# Altium footprint library LM5050.PCBLIB: 1 footprints
Each footprint in its own frame and in the unit in brackets; x right, y up, seen from the top. Pads: shape width x height; smd on the part's side, far side on the other; paste and mask are expansions set on the pad; w line width, h text height; cw(c..) or ccw(c..) is an arc to the next point about the centre after c.
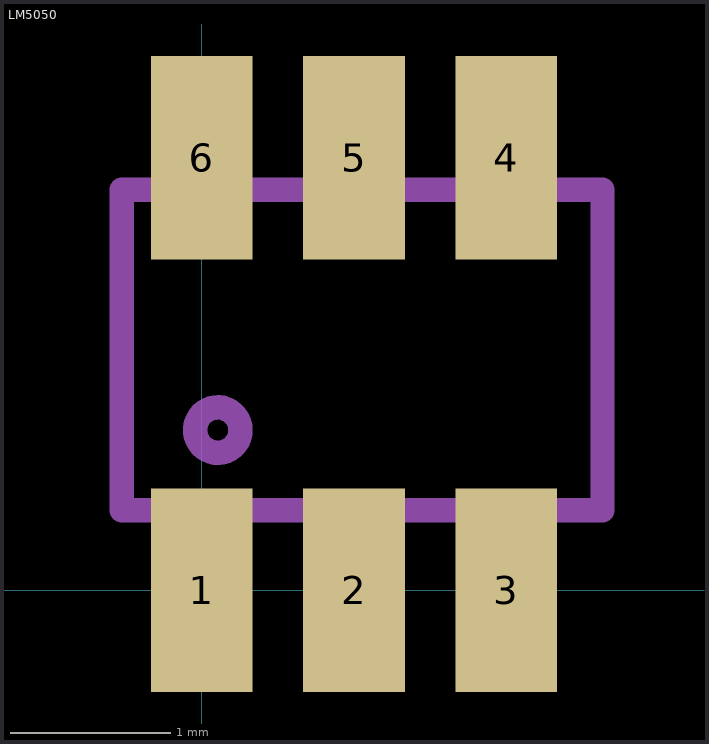
[diagram p0: the footprint, top view; thin cyan lines are the x and y axes]

## LM5050 [mil]
pads (6):
  rect 25x50 smd: 1(0,0) 2(37.4,0) 3(74.8,0) 4(74.8,106.3) 5(37.4,106.3) 6(0,106.3)
tPlace:
  circle w6: c3.94,39.37 r5.57
  lines w6: -19.69,19.69 98.43,19.69 98.43,98.43 -19.69,98.43 -19.69,19.69